# Altium footprint library iMX53_BB_PCB_V1I1.PcbLib: 72 footprints (part 1 of 5)
Each footprint in its own frame and in the unit in brackets; x right, y up, seen from the top. Pads: shape width x height; smd on the part's side, far side on the other; paste and mask are expansions set on the pad; w line width, h text height; cw(c..) or ccw(c..) is an arc to the next point about the centre after c.
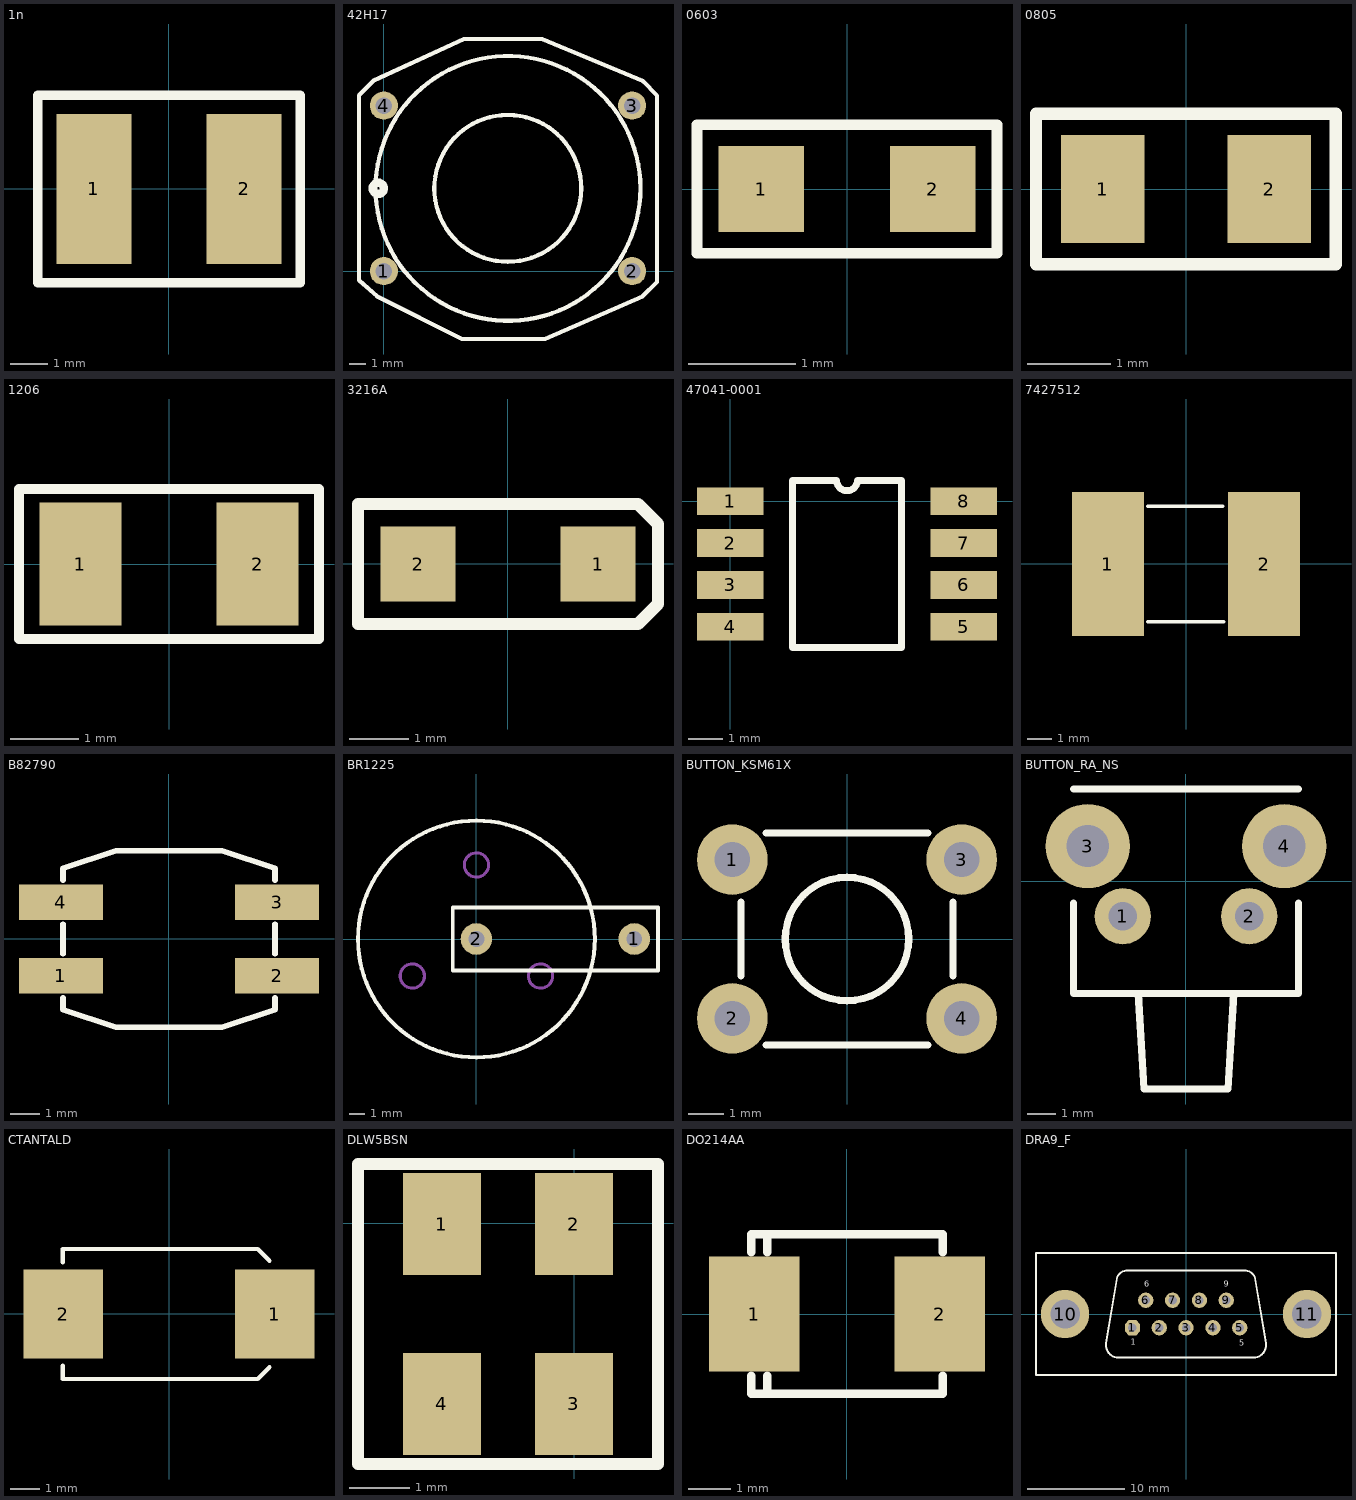
[diagram p0: the footprints below, top view; thin cyan lines are the x and y axes]

## 1n [mil]
pads (2):
  rect 80x160 smd: 1(-80,0) 2(80,0)
Top Overlay:
  lines w10: -140,-100 140,-100 140,100 -140,100 -140,0 -140,-100

## 42H17 [mm]
pads (4):
  round 1.7 hole 1: 1(0,0) 2(15,0) 3(15,10) 4(0,10)
Top Overlay:
  circle w0.254: c7.488,5 r4.437
  circle w0.254: c7.5,5 r8
  circle w0.5: c-0.34,5 r0.34
  lines w0.254: -1.5,-0.55 -0.4,-1.525 4.72,-4.1 9.723,-4.1 15.613,-1.537 16.5,-0.65 16.5,10.6 15.65,11.475 9.542,14.025 4.844,14.025 -0.61,11.515 -1.5,10.625 -1.5,5 -1.5,-0.55

## 0603 [mm]
pads (2):
  rect 0.8x0.8 smd: 1(-0.8,0) 2(0.8,0)
Top Overlay:
  lines w0.1: -1.4,-0.6 -1.4,0.6 1.4,0.6 1.4,-0.6 -1.4,-0.6

## 0805 [mm]
pads (2):
  rect 1x1.3 smd: 1(-1,0) 2(1,0)
Top Overlay:
  lines w0.15: -1.8,-0.9 1.8,-0.9 1.8,0.9 -1.8,0.9 -1.8,-0.9

## 1206 [mm]
pads (2):
  rect 1.2x1.8 smd: 1(-1.3,0) 2(1.3,0)
Top Overlay:
  lines w0.15: -2.2,-1.1 2.2,-1.1 2.2,1.1 -2.2,1.1 -2.2,-1.1

## 3216A [mil]
pads (2):
  rect 50x50 smd: 1(60,0) 2(-60,0)
Top Overlay:
  lines w8: -100,-40 86.67,-40 100,-26.67 100,26.67 86.67,40 -100,40 -100,0 -100,-40

## 47041-0001 [mm]
pads (8):
  rect 1.9x0.8 smd: 1(0,0) 2(0,-1.2) 3(0,-2.4) 4(0,-3.6) 5(6.7,-3.6) 6(6.7,-2.4) 7(6.7,-1.2) 8(6.7,0)
Top Overlay:
  lines w0.2: 1.785,-4.2 4.915,-4.2 4.915,0.6 3.65,0.6 cw(c3.35,0.6) 3.05,0.6 1.785,0.6 1.785,-4.2

## 7427512 [mm]
pads (2):
  rect 3x6 smd: 1(-3.25,0) 2(3.25,0)
Top Overlay:
  lines w0.15: -1.6,-2.4 1.575,-2.4 ; -1.6,2.4 1.525,2.4

## B82790 [mm]
pads (4):
  rect 2.85x1.2 smd: 1(-3.675,-1.25) 2(3.675,-1.25) 3(3.675,1.25) 4(-3.675,1.25)
Top Overlay:
  lines w0.2: -3.6,-2 -3.6,-2.4 -1.8,-3 1.8,-3 3.6,-2.4 3.6,-2 ; -3.6,-0.5 -3.6,0.5 ; -3.6,2 -3.6,2.4 -1.8,3 1.8,3 3.6,2.4 3.6,2 ; 3.6,-0.5 3.6,0.5

## BR1225 [mil]
pads (2):
  round 80 hole 40: 1(400,0) 2(0,0)
Top Overlay:
  circle w10: c0,0 r300
  lines w10: -60,-80 -60,80 460,80 460,-80 -60,-80
Mechanical 1:
  circle w7.87: c162.38,-93.75 r30.71
  circle w7.87: c-162.38,-93.75 r30.71
  circle w7.87: c0,187.5 r30.71

## BUTTON_KSM61X [mm]
pads (4):
  round 2 hole 1: 1(-3.25,2.25) 2(-3.25,-2.25) 3(3.25,2.25) 4(3.25,-2.25)
Top Overlay:
  circle w0.2: c0,0 r1.75
  lines w0.2: -3,-1.05 -3,1.05 ; -2.3,-3 2.3,-3 ; -2.3,3 2.3,3 ; 3,-1.05 3,1.05

## BUTTON_RA_NS [mm]
pads (4):
  round 2 hole 1.016: 1(-2.25,-1.25) 2(2.25,-1.25)
  round 3 hole 1.5: 3(-3.5,1.25) 4(3.5,1.25)
Top Overlay:
  lines w0.254: -4,-0.782 -4,-4 4,-4 4,-0.782 ; -4,3.282 4,3.282 ; -1.7,-4 -1.5,-7.4 1.5,-7.4 1.7,-4

## CTANTALD [mm]
pads (2):
  rect 2.7x3 smd: 1(3.575,0) 2(-3.575,0)
Top Overlay:
  lines w0.15: -3.6,-1.75 -3.6,-2.2 3,-2.2 3.4,-1.8 ; -3.6,1.75 -3.6,2.2 3,2.2 3.4,1.8

## DLW5BSN [mm]
pads (4):
  rect 1.3x1.7 smd: 1(-2.201,-0.009) 2(-0.001,-0.009) 3(-0.001,-3.009) 4(-2.201,-3.009)
Top Overlay:
  lines w0.2: -3.601,-4.009 -3.601,0.991 1.399,0.991 1.399,-4.009 -3.601,-4.009

## DO214AA [mm]
pads (2):
  rect 2.159x2.743 smd: 1(-2.21,0) 2(2.21,0)
Top Overlay:
  lines w0.2: -2.285,-1.905 -2.285,-1.473 ; -2.285,-1.9 2.285,-1.9 ; -2.285,1.473 -2.285,1.905 ; -2.285,1.9 2.285,1.9 2.285,1.473 ; -1.9,-1.905 -1.9,-1.473 ; -1.9,1.473 -1.9,1.905 ; 2.285,-1.905 2.285,-1.473

## DRA9_F [mm]
pads (11):
  oct 1.575x1.575 hole 0.889: 1(-5.535,-1.418)
  round 1.575 hole 0.889: 2(-2.762,-1.418) 3(0.011,-1.418) 4(2.783,-1.418) 5(5.556,-1.418) 6(-4.159,1.418) 7(-1.386,1.418) 8(1.386,1.418) 9(4.159,1.418)
  round 4.995 hole 3.048: 10(-12.499,0) 11(12.499,0)
Top Overlay:
  lines w0.2: -8.251,-3.009 -7.1,3.865 ; 7.1,3.865 8.251,-3.009
  lines w0.203: -8.251,-3.009 ccw(c-7,-3.23) -7,-4.5 7,-4.5 ccw(c7,-3.23) 8.251,-3.009 ; -7.1,3.865 cw(c-6,3.23) -6,4.5 6,4.5 cw(c6,3.23) 7.1,3.865 ; -15.5,-6.3 -15.5,6.3 15.5,6.3 15.5,-6.3 -15.5,-6.3
  text "9" at 3.9,2.8 h0.6
  text "5" at 5.5,-3.3 h0.6
  text "1" at -5.7,-3.2 h0.6
  text "6" at -4.3,2.8 h0.6